# Altium footprint library FTS-103-01-F-S.PcbLib: 1 footprints
Each footprint in its own frame and in the unit in brackets; x right, y up, seen from the top. Pads: shape width x height; smd on the part's side, far side on the other; paste and mask are expansions set on the pad; w line width, h text height; cw(c..) or ccw(c..) is an arc to the next point about the centre after c.
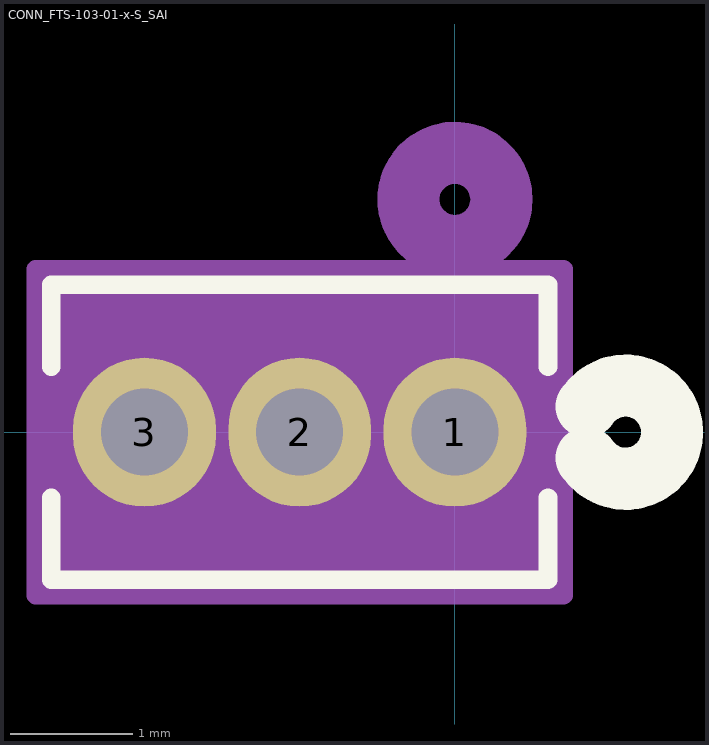
[diagram p0: the footprint, top view; thin cyan lines are the x and y axes]

## CONN_FTS-103-01-x-S_SAI [mil]
pads (3):
  oval 46x48 / inner round 60 / far side oval 46x48 hole 28 paste-24 mask+0: 1(0,0) 2(-50,0) 3(-100,0)
Top Overlay:
  lines w6: -130,-21.08 -130,-47.5 30,-47.5 30,-21.08 ; -130,21.08 -130,47.5 30,47.5 30,21.08
  lines w20: 42.48,-8.27 ccw(c55,0) 70,0 ccw(c55,0) 42.48,8.27
Bottom Overlay:
  circle w20: c55,0 r15
Mechanical 13:
  circle w20: c0,75 r15
  lines w1: -125,-42.5 25,-42.5 25,42.5 -125,42.5 -125,-42.5
Mechanical 15:
  region: 35,52.5 -135,52.5 -135,-52.5 35,-52.5
  lines w6: -135,-52.5 -135,52.5 35,52.5 35,-52.5 -135,-52.5
3D body "FTS-103-01-F-S.stp": height 154, standoff -90, extent -125,-42.5 25,42.5